# EAGLE library part DRV8332 (library BARUC)
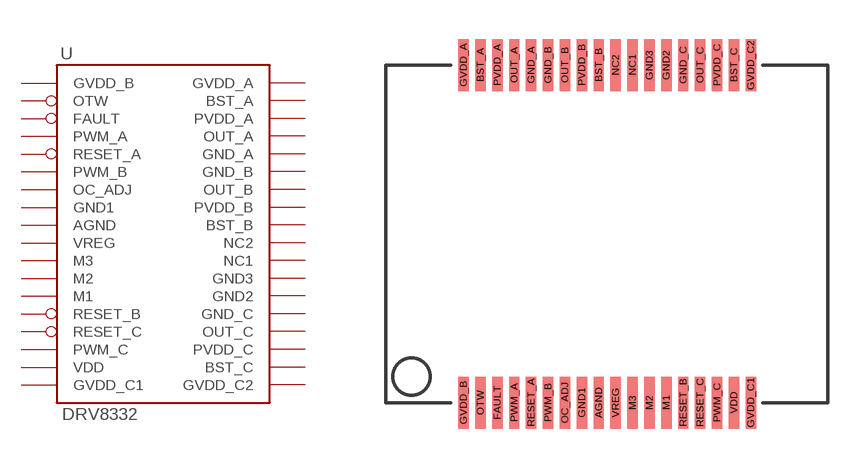
[diagram p0: symbol with the pads of DRV8332; footprint DRV8332]

Designator prefix -

## DRV8332  [DRV8332]
AGND  AGND
BST_A  BST_A
BST_B  BST_B
BST_C  BST_C
FAULT  FAULT
GND1  GND1
GND2  GND2
GND3  GND3
GND_A  GND_A
GND_B  GND_B
GND_C  GND_C
GVDD_A  GVDD_A
GVDD_B  GVDD_B
GVDD_C1  GVDD_C1
GVDD_C2  GVDD_C2
M1  M1
M2  M2
M3  M3
NC1  NC1
NC2  NC2
OC_ADJ  OC_ADJ
OTW  OTW
OUT_A  OUT_A
OUT_B  OUT_B
OUT_C  OUT_C
PVDD_A  PVDD_A
PVDD_B  PVDD_B
PVDD_C  PVDD_C
PWM_A  PWM_A
PWM_B  PWM_B
PWM_C  PWM_C
RESET_A  RESET_A
RESET_B  RESET_B
RESET_C  RESET_C
VDD  VDD
VREG  VREG

## Footprint DRV8332 (pad centres in mm)
smd 0.4 x 2: AGND -0.3,-6.5; BST_A -4.85,6.5; BST_B -0.3,6.5; BST_C 4.9,6.5; FAULT -4.2,-6.5; GND1 -0.95,-6.5; GND2 2.3,6.5; GND3 1.65,6.5; GND_A -2.9,6.5; GND_B -2.25,6.5; GND_C 2.95,6.5; GVDD_A -5.5,6.5; GVDD_B -5.5,-6.5; GVDD_C1 5.55,-6.5; GVDD_C2 5.55,6.5; M1 2.3,-6.5; M2 1.65,-6.5; M3 1,-6.5; NC1 1,6.5; NC2 0.35,6.5; OC_ADJ -1.6,-6.5; OTW -4.85,-6.5; OUT_A -3.55,6.5; OUT_B -1.6,6.5; OUT_C 3.6,6.5; PVDD_A -4.2,6.5; PVDD_B -0.95,6.5; PVDD_C 4.25,6.5; PWM_A -3.55,-6.5; PWM_B -2.25,-6.5; PWM_C 4.25,-6.5; RESET_A -2.9,-6.5; RESET_B 2.95,-6.5; RESET_C 3.6,-6.5; VDD 4.9,-6.5; VREG 0.35,-6.5